# Altium footprint library LCRBoard.PcbLib: 1 footprints
Each footprint in its own frame and in the unit in brackets; x right, y up, seen from the top. Pads: shape width x height; smd on the part's side, far side on the other; paste and mask are expansions set on the pad; w line width, h text height; cw(c..) or ccw(c..) is an arc to the next point about the centre after c.
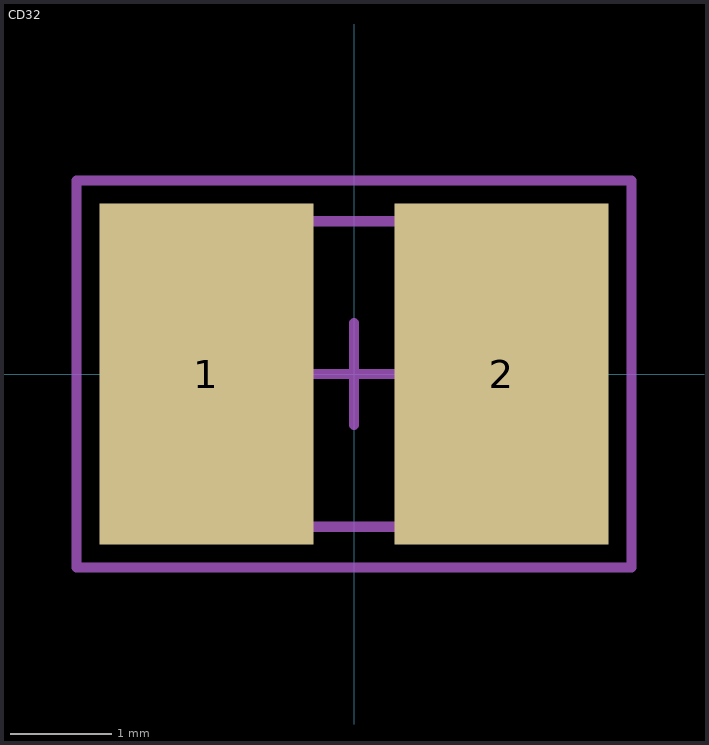
[diagram p0: the footprint, top view; thin cyan lines are the x and y axes]

## CD32 [mm] "Precision Wire Wound Inductor, 2-Leads, Body 3.5x3.0mm, IPC Medium Density"
height 2.4
pads (2):
  rect 2.1x3.35 smd: 1(-1.45,0) 2(1.45,0)
Mechanical 13:
  lines w0.1: -1.75,-1.5 -1.75,1.5 1.75,1.5 1.75,-1.5 -1.75,-1.5
Mechanical 15:
  lines w0.1: -0.5,0 0.5,0 ; 0,-0.5 0,0.5 ; -2.725,-1.9 -2.725,1.9 2.725,1.9 2.725,-1.9 -2.725,-1.9
3D body: height 2.4, standoff 0, extent -1.75,-1.5 1.75,1.5